# Altium schematic symbol library Loom Components.SchLib: 10 symbols
Pins are listed as number, name and electrical type; pins without a type are passive.

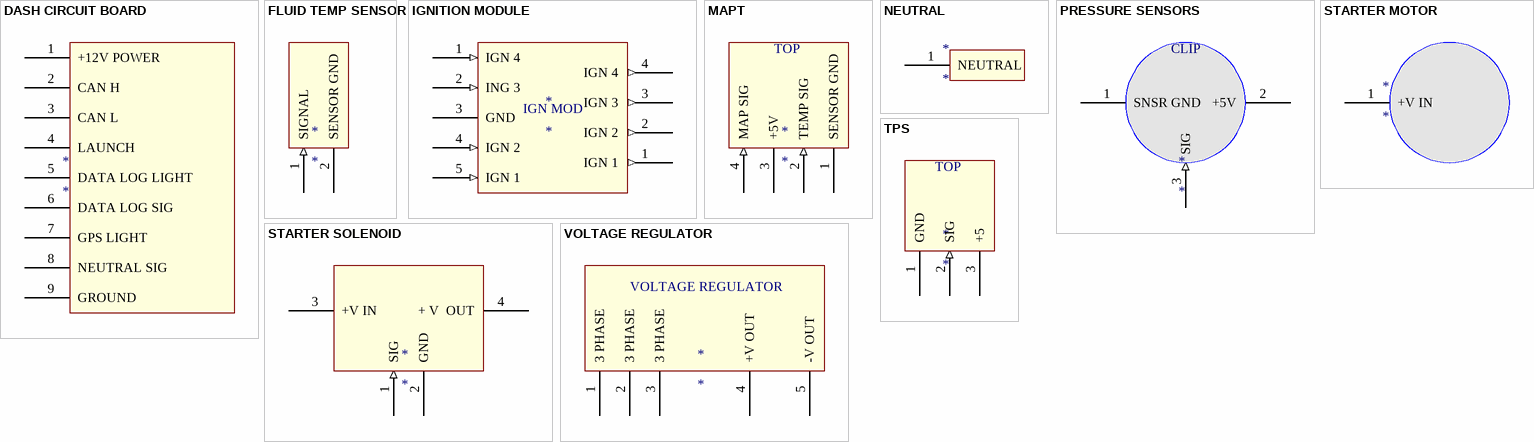
[diagram p0: symbols DASH CIRCUIT BOARD to VOLTAGE REGULATOR]

## DASH CIRCUIT BOARD
designator *
pins: 1 +12V POWER, 2 CAN H, 3 CAN L, 4 LAUNCH, 5 DATA LOG LIGHT, 6 DATA LOG SIG, 7 GPS LIGHT, 8 NEUTRAL SIG, 9 GROUND

## FLUID TEMP SENSOR
designator *
FOR OIL, FUEL, WATER
pins: 1 SIGNAL (in), 2 SENSOR GND (power)

## IGNITION MODULE
designator *
BOSCH 4 PIN IGNITION MODULE 227 100 211
pins: 1 IGN 4 (in) "IGNITION 1", 1 IGN 1 (out), 2 ING 3 (in), 2 IGN 2 (out), 3 GND (power), 3 IGN 3 (out), 4 IGN 2 (in), 4 IGN 4 (out), 5 IGN 1 (in)
text: IGN MOD

## MAPT
designator *
BOSCH 4 BAR MAP AND TEMP
pins: 1 SENSOR GND (power), 2 TEMP SIG (in), 3 +5V (power), 4 MAP SIG (in)
text: TOP

## NEUTRAL
designator *
pins: 1 NEUTRAL

## PRESSURE SENSORS
designator *
TEXAS INSTRUMENTS 150 PSI
pins: 1 SNSR GND (power), 2 +5V (power), 3 SIG (in)
text: CLIP

## STARTER MOTOR
designator *
CBR600 STARTER MOTOR
pins: 1 +V IN (power)

## STARTER SOLENOID
designator *
pins: 1 SIG (in) "INPUT SIGNAL", 2 GND "GROUND LINE", 3 +V IN (power), 4 + V  OUT (power)

## TPS
designator *
ACUITY HALL EFFECT TPS
pins: 1 GND, 2 SIG (in), 3 +5
text: TOP

## VOLTAGE REGULATOR
designator *
SHINDENGEN F FH012AA
pins: 1 3 PHASE (power) "3 PHASE IN", 2 3 PHASE (power) "3 PHASE IN", 3 3 PHASE (power) "3 PHASE IN", 4 +V OUT (power) "+ VOLTAGE", 5 -V OUT (power) "NEGATIVE VOLTAGE"